# Altium integrated library Components - 17.05.25 - 09.30.IntLib: 1 symbol
Pins are listed as number, name and electrical type; pins without a type are passive.

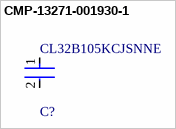
[diagram p0: symbol CMP-13271-001930-1]

## CMP-13271-001930-1
designator C?, comment CL32B105KCJSNNE
Cap Ceramic 1uF 100V X7R ±10% SMD 1210 +125°C Embossed T/R; Radiation Hardening: No; Case Code (Metric): 3225; Height: 2.5mm; Voltage Rating: 100V; Thickness: 0.106inch; Tolerance: 10%; Length: 3.2mm; Case/Package: 1210; Voltage: 100V; Package Quantity: 1; Material: Ceramic; Mount: Surface Mount; Min Operating Temperature: -55°C; Capacitance: 1uF; Max Operating Temperature: 125°C; Case Code (Imperial): 1210; Dielectric: X7R; Width: 0.098inch; Lead Free: Lead Free; Depth: 2.5mm; Packaging: Tape and Reel
footprint FP-CL32-IPC_A
footprint FP-CL32-IPC_C
footprint FP-CL32-IPC_B
pins: 1, 2